# EAGLE library part SD2068 (library Device-IPC7351C)
SD2068 是一种具有标准 IIC 接口的实时时钟芯片,CPU 可使用该接口通过 5 位地址寻址来读写片内 32 字节 寄存器的数据(包括时间寄存器、报警寄存器、控制寄存器、通用SRAM 寄存器)。 SD2068内置单路定时/报警中断输出,报警中断时间最长可设至100 年。 SD2068 内置时钟精度数字调整功能，可以在很宽的范围内校正时钟的偏差(-189ppm～+189ppm,分辨力为 3.05ppm)，并通过外置的温度传感器可设定适应温度变化的调整值，实现在宽温范围内高精度的计时功能。 SD2068 具有一个后备电池输入脚 VBAT,当芯片检测到主电源 VDD掉到后备电池电压以下,芯片会自动转为由接在VBAT的后备电池供电。
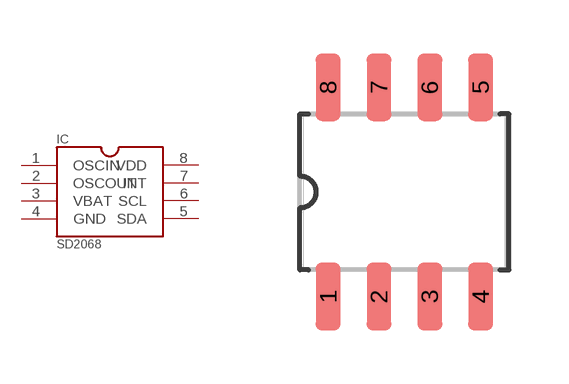
[diagram p2: symbol with the pads of SOIC8P127_502X600X175L60X40N--SOIC8; footprint SOIC8P127_502X600X175L60X40N--SOIC8]

Designator prefix IC

## SD2068  [SOIC8P127_502X600X175L60X40N--SOIC8]
1  OSCIN
2  OSCOUT
3  VBAT
4  GND  pwr
5  SDA
6  SCL
7  INT
8  VDD  pwr

## Footprint SOIC8P127_502X600X175L60X40N--SOIC8 (pad centres in mm)
Small Outline IC (SOIC), 1.27 mm pitch; 8 pin, 5.02 mm L X 3.90 mm W X 1.75 mm H body PCB Libraries Packages
smd 0.62 x 1.69: 1 -1.905,-2.615; 2 -0.635,-2.615; 3 0.635,-2.615; 4 1.905,-2.615; 5 1.905,2.615; 6 0.635,2.615; 7 -0.635,2.615; 8 -1.905,2.615